# Altium footprint library Main.PcbLib: 56 footprints (part 2 of 4)
Each footprint in its own frame and in the unit in brackets; x right, y up, seen from the top. Pads: shape width x height; smd on the part's side, far side on the other; paste and mask are expansions set on the pad; w line width, h text height; cw(c..) or ccw(c..) is an arc to the next point about the centre after c.
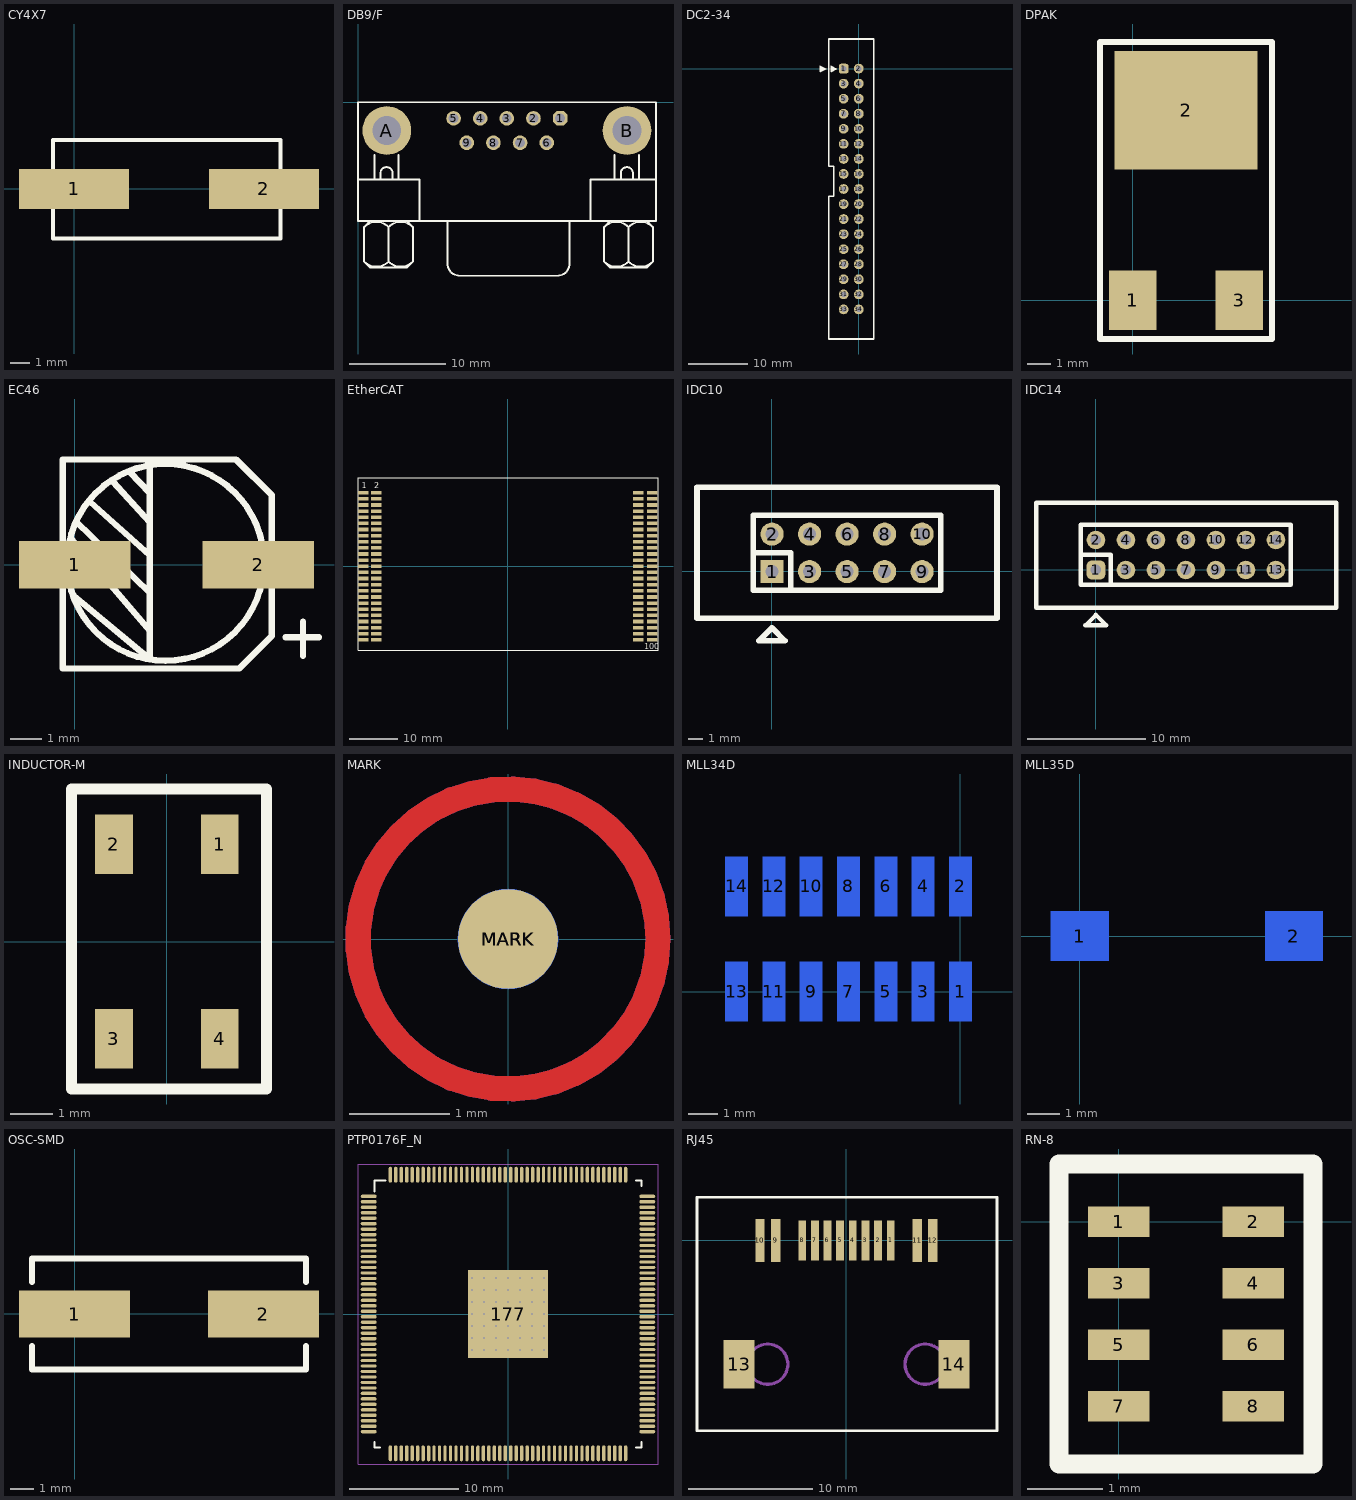
[diagram p1: the footprints below, top view; thin cyan lines are the x and y axes]

## CY4X7 [mil]
pads (2):
  rect 220x80 smd: 1(0,0) 2(379,0)
Top Overlay:
  lines w8: -42,-99 -42,98 412,98 412,-99 -42,-99

## DB9/F [mil]
pads (11):
  oct 60x60 hole 40: 1(827.92,-66)
  round 60 hole 40: 2(718.75,-66) 3(609.58,-66) 4(500.42,-66) 5(391.25,-66) 6(772.92,-166) 7(663.75,-166) 8(554.58,-166) 9(445.42,-166)
  round 200 hole 118: A(117.92,-116) B(1102.08,-116)
Top Overlay:
  lines w8: -0.24,-485.83 -0.24,-0.33 ; 0,-486 1220,-486 ; 0,-316 251.58,-316 251.92,-485 ; 0,0 1220,0 ; 24.75,-653.09 ccw(c74.83,-603) 124.92,-653.09 ; 24.75,-511.25 cw(c74.83,-561.33) 124.92,-511.25 ; 49.83,-486.33 24.83,-511.33 24.83,-653 49.83,-678 199.83,-678 224.83,-653 224.83,-511.33 199.83,-486.33 ; 66.58,-316 66.58,-216 ; 91.58,-316 91.58,-291 cw(c116.58,-291) 141.58,-291 141.58,-316 ; 124.75,-653.09 ccw(c174.83,-603) 224.92,-653.09 ; 124.75,-511.25 cw(c174.83,-561.33) 224.92,-511.25 ; 124.83,-653 124.83,-511.33 ; 166.58,-316 166.58,-216 ; 366.5,-486 366.5,-661 ccw(c416.5,-661) 416.5,-711 816.5,-711 ccw(c816.5,-661) 866.5,-661 866.5,-486 ; 951.92,-484 951.58,-316 1220,-316 ; 1008.08,-653.09 ccw(c1058.17,-603) 1108.25,-653.09 ; 1008.08,-511.25 cw(c1058.17,-561.33) 1108.25,-511.25 ; 1033.17,-486.33 1008.17,-511.33 1008.17,-653 1033.17,-678 1183.17,-678 1208.17,-653 1208.17,-511.33 1183.17,-486.33 ; 1051.58,-316 1051.58,-216 ; 1076.58,-316 1076.58,-291 cw(c1101.58,-291) 1126.58,-291 1126.58,-316 ; 1108.08,-653.09 ccw(c1158.17,-603) 1208.25,-653.09 ; 1108.08,-511.25 cw(c1158.17,-561.33) 1208.25,-511.25 ; 1108.17,-653 1108.17,-511.33 ; 1151.58,-316 1151.58,-216 ; 1220.24,-485.49 1220.24,0
Bottom Overlay:
  text "9" at 298.78,-184.45 h50
  text "5" at 294.78,-91.45 h50
  text "6" at 957.78,-193.45 h50
  text "1" at 953.78,-89.45 h50

## DC2-34 [mil]
height 43.31
pads (34):
  rrect50% 65x65 hole 35.43: 1(-100,0)
  round 65 hole 35.43: 2(0,0) 3(-100,-100) 4(0,-100) 5(-100,-200) 6(0,-200) 7(-100,-300) 8(0,-300) 9(-100,-400) 10(0,-400) 11(-100,-500) 12(0,-500) 13(-100,-600) 14(0,-600) 15(-100,-700) 16(0,-700) 17(-100,-800) 18(0,-800) 19(-100,-900) 20(0,-900) 21(-100,-1000) 22(0,-1000) 23(-100,-1100) 24(0,-1100) 25(-100,-1200) 26(0,-1200) 27(-100,-1300) 28(0,-1300) 29(-100,-1400) 30(0,-1400) 31(-100,-1500) 32(0,-1500) 33(-100,-1600) 34(0,-1600)
Top Overlay:
  lines w7.87: -247,-0.09 -238.14,-0.09 ; -175.35,-0.09 -166.49,-0.09 ; -255.86,-19.77 -255.86,19.6 -216.49,-0.09 -255.86,-19.77 ; -251.92,-13.87 -251.92,13.69 -225.35,-0.09 -251.92,-13.87 ; -247.98,-6.98 -247.98,6.8 -234.2,-0.09 -247.98,-6.98 ; -184.2,-19.77 -184.2,19.6 -144.83,-0.09 -184.2,-19.77 ; -180.27,-13.87 -180.27,13.69 -153.69,-0.09 -180.27,-13.87 ; -176.33,-6.98 -176.33,6.8 -162.55,-0.09 -176.33,-6.98
  lines w10: -200,-1796.85 100,-1796.85 100,196.85 -200,196.85 -200,-600 -200,-649.8 -164.37,-649.8 -164.37,-849.61 -200,-849.61 -200,-1796.85

## DPAK [mil]
height 43.31
pads (3):
  rect 80x100 smd: 1(0,0) 3(180,0)
  rect 240x200 smd: 2(90,320)
Top Overlay:
  lines w10: -55,-65 -55,435 235,435 235,-65 -55,-65

## EC46 [mil]
pads (2):
  rect 140x60 smd: 1(0,0) 2(230,0)
Top Overlay:
  circle w8: c113.68,3 r123.32
  lines w8: -4,32 94,-83 ; -1,-39 94,-118 94,123 ; 2,54 94,-35 ; 19,79 94,12 ; 48,104 94,53 ; 69,116 94,90 ; 264,-91 306,-91 ; 286,-114 286,-71 ; -15,-130 -15,132 202,132 247,87 247,-89 206,-130 -15,-130

## EtherCAT [mm]
pads (100):
  rect 2.2x0.75 smd: 1(-29.887,15.24) 2(-27.173,15.24) 3(-29.887,13.97) 4(-27.173,13.97) 5(-29.887,12.7) 6(-27.173,12.7) 7(-29.887,11.43) 8(-27.173,11.43) 9(-29.887,10.16) 10(-27.173,10.16) 11(-29.887,8.89) 12(-27.173,8.89) 13(-29.887,7.62) 14(-27.173,7.62) 15(-29.887,6.35) 16(-27.173,6.35) 17(-29.887,5.08) 18(-27.173,5.08) 19(-29.887,3.81) 20(-27.173,3.81) 21(-29.887,2.54) 22(-27.173,2.54) 23(-29.887,1.27) 24(-27.173,1.27) 25(-29.887,0) 26(-27.173,0) 27(-29.887,-1.27) 28(-27.173,-1.27) 29(-29.887,-2.54) 30(-27.173,-2.54) 31(-29.887,-3.81) 32(-27.173,-3.81) 33(-29.887,-5.08) 34(-27.173,-5.08) 35(-29.887,-6.35) 36(-27.173,-6.35) 37(-29.887,-7.62) 38(-27.173,-7.62) 39(-29.887,-8.89) 40(-27.173,-8.89) 41(-29.887,-10.16) 42(-27.173,-10.16) 43(-29.887,-11.43) 44(-27.173,-11.43) 45(-29.887,-12.7) 46(-27.173,-12.7) 47(-29.887,-13.97) 48(-27.173,-13.97) 49(-29.887,-15.24) 50(-27.173,-15.24) 51(27.06,15.24) 52(29.944,15.24) 53(27.06,13.97) 54(29.944,13.97) 55(27.06,12.7) 56(29.944,12.7) 57(27.06,11.43) 58(29.944,11.43) 59(27.06,10.16) 60(29.944,10.16) 61(27.06,8.89) 62(29.944,8.89) 63(27.06,7.62) 64(29.944,7.62) 65(27.06,6.35) 66(29.944,6.35) 67(27.06,5.08) 68(29.944,5.08) 69(27.06,3.81) 70(29.944,3.81) 71(27.06,2.54) 72(29.944,2.54) 73(27.06,1.27) 74(29.944,1.27) 75(27.06,0) 76(29.944,0) 77(27.06,-1.27) 78(29.944,-1.27) 79(27.06,-2.54) 80(29.944,-2.54) 81(27.06,-3.81) 82(29.944,-3.81) 83(27.06,-5.08) 84(29.944,-5.08) 85(27.06,-6.35) 86(29.944,-6.35) 87(27.06,-7.62) 88(29.944,-7.62) 89(27.06,-8.89) 90(29.944,-8.89) 91(27.06,-10.16) 92(29.944,-10.16) 93(27.06,-11.43) 94(29.944,-11.43) 95(27.06,-12.7) 96(29.944,-12.7) 97(27.06,-13.97) 98(29.944,-13.97) 99(27.06,-15.24) 100(29.944,-15.24)
Top Overlay:
  lines w0.203: -30.944,-17.381 -30.944,18.328 31.134,18.328 31.134,-17.381 -30.944,-17.381
  text "1" at -30.169,16.113 h1.2
  text "2" at -27.583,16.182 h1.2
  text "100" at 28.279,-17.191 h1.2

## IDC10 [mil]
pads (10):
  rect 62x62 hole 35: 1(0.49,-0.29)
  round 62 hole 35: 2(0.49,99.71) 3(100.49,-0.29) 4(100.49,99.71) 5(200.49,-0.29) 6(200.49,99.71) 7(300.49,-0.29) 8(300.49,99.71) 9(400.49,-0.29) 10(400.49,99.71)
Top Overlay:
  lines w15: -49.51,49.71 50.49,49.71 50.49,-50.29 ; -199.51,-125.2 600.35,-125.2 600.35,224.8 -199.51,224.8 -199.51,-125.2 ; -49.51,-50.29 450.35,-50.29 450.35,149.71 -49.51,149.71 -49.51,-50.29 ; -35,-185 35,-185 0,-150 -35,-185

## IDC14 [mil]
pads (14):
  rrect50% 62x62 hole 35: 1(0,0)
  round 62 hole 35: 2(0,100) 3(100,0) 4(100,100) 5(200,0) 6(200,100) 7(300,0) 8(300,100) 9(400,0) 10(400,100) 11(500,0) 12(500,100) 13(600,0) 14(600,100)
Top Overlay:
  lines w15: -50,50 50,50 50,-50 ; -199.86,-125.03 -199.86,224.97 800.14,224.97 800.14,-125.03 -199.86,-125.03 ; -50,-50 -50,150 650,150 650,-50 -50,-50 ; -35,-185 35,-185 0,-150 -35,-185

## INDUCTOR-M [mil]
pads (4):
  rect 35x55 smd: 1(49,90) 2(-49,90) 3(-49,-90) 4(49,-90)
Top Overlay:
  lines w10: -88.28,-136.54 92.26,-136.54 92.26,141.21 -88.28,141.21 -88.28,-136.54

## MARK [mm]
height 1.1
pads (6):
  round 1 smd: MARK(0,0)
  round 1 smd far side: MARK(0,0)
  round 2 on Top Paste: MARK(0,0)
  round 2 on Bottom Paste: MARK(0,0)
  round 2 on Top Solder: MARK(0,0)
  round 2 on Bottom Solder: MARK(0,0)
Top Layer:
  circle w0.254: c0,0 r1.5
Bottom Layer:
  circle w0.254: c0,0 r1.5

## MLL34D [mil]
pads (14):
  rect 30x80 smd far side: 1(0,0) 2(0,141) 3(-50,0) 4(-50,141) 5(-100,0) 6(-100,141) 7(-150,0) 8(-150,141) 9(-200,0) 10(-200,141) 11(-250,0) 12(-250,141) 13(-300,0) 14(-300,141)
Bottom Overlay:
  lines w6: -329,8 -353,8 -353,128 -329,128 ; 26,8 49,8 49,128 26,128

## MLL35D [mil]
pads (2):
  rect 70x60 smd far side: 1(0,0) 2(260,0)
Bottom Overlay:
  lines w6: -53,-81 -53,74 311,74 311,-81 -53,-81

## OSC-SMD [mm]
height 1.1
pads (2):
  rect 4.7x2 smd: 1(0,0) 2(8,0)
Top Overlay:
  lines w0.25: -1.8,-1.35 -1.8,-2.35 9.8,-2.35 9.8,-1.35 ; -1.8,1.35 -1.8,2.35 9.8,2.35 9.8,1.35

## PTP0176F_N [mm]
pads (226):
  oval 1.45x0.3 smd paste+0 mask+0.051: 1(-12.725,10.75) 2(-12.725,10.25) 3(-12.725,9.75) 4(-12.725,9.25) 5(-12.725,8.75) 6(-12.725,8.25) 7(-12.725,7.75) 8(-12.725,7.25) 9(-12.725,6.75) 10(-12.725,6.25) 11(-12.725,5.75) 12(-12.725,5.25) 13(-12.725,4.75) 14(-12.725,4.25) 15(-12.725,3.75) 16(-12.725,3.25) 17(-12.725,2.75) 18(-12.725,2.25) 19(-12.725,1.75) 20(-12.725,1.25) 21(-12.725,0.75) 22(-12.725,0.25) 23(-12.725,-0.25) 24(-12.725,-0.75) 25(-12.725,-1.25) 26(-12.725,-1.75) 27(-12.725,-2.25) 28(-12.725,-2.75) 29(-12.725,-3.25) 30(-12.725,-3.75) 31(-12.725,-4.25) 32(-12.725,-4.75) 33(-12.725,-5.25) 34(-12.725,-5.75) 35(-12.725,-6.25) 36(-12.725,-6.75) 37(-12.725,-7.25) 38(-12.725,-7.75) 39(-12.725,-8.25) 40(-12.725,-8.75) 41(-12.725,-9.25) 42(-12.725,-9.75) 43(-12.725,-10.25) 44(-12.725,-10.75) 89(12.725,-10.75) 90(12.725,-10.25) 91(12.725,-9.75) 92(12.725,-9.25) 93(12.725,-8.75) 94(12.725,-8.25) 95(12.725,-7.75) 96(12.725,-7.25) 97(12.725,-6.75) 98(12.725,-6.25) 99(12.725,-5.75) 100(12.725,-5.25) 101(12.725,-4.75) 102(12.725,-4.25) 103(12.725,-3.75) 104(12.725,-3.25) 105(12.725,-2.75) 106(12.725,-2.25) 107(12.725,-1.75) 108(12.725,-1.25) 109(12.725,-0.75) 110(12.725,-0.25) 111(12.725,0.25) 112(12.725,0.75) 113(12.725,1.25) 114(12.725,1.75) 115(12.725,2.25) 116(12.725,2.75) 117(12.725,3.25) 118(12.725,3.75) 119(12.725,4.25) 120(12.725,4.75) 121(12.725,5.25) 122(12.725,5.75) 123(12.725,6.25) 124(12.725,6.75) 125(12.725,7.25) 126(12.725,7.75) 127(12.725,8.25) 128(12.725,8.75) 129(12.725,9.25) 130(12.725,9.75) 131(12.725,10.25) 132(12.725,10.75)
  oval 0.3x1.45 smd paste+0 mask+0.051: 45(-10.75,-12.725) 46(-10.25,-12.725) 47(-9.75,-12.725) 48(-9.25,-12.725) 49(-8.75,-12.725) 50(-8.25,-12.725) 51(-7.75,-12.725) 52(-7.25,-12.725) 53(-6.75,-12.725) 54(-6.25,-12.725) 55(-5.75,-12.725) 56(-5.25,-12.725) 57(-4.75,-12.725) 58(-4.25,-12.725) 59(-3.75,-12.725) 60(-3.25,-12.725) 61(-2.75,-12.725) 62(-2.25,-12.725) 63(-1.75,-12.725) 64(-1.25,-12.725) 65(-0.75,-12.725) 66(-0.25,-12.725) 67(0.25,-12.725) 68(0.75,-12.725) 69(1.25,-12.725) 70(1.75,-12.725) 71(2.25,-12.725) 72(2.75,-12.725) 73(3.25,-12.725) 74(3.75,-12.725) 75(4.25,-12.725) 76(4.75,-12.725) 77(5.25,-12.725) 78(5.75,-12.725) 79(6.25,-12.725) 80(6.75,-12.725) 81(7.25,-12.725) 82(7.75,-12.725) 83(8.25,-12.725) 84(8.75,-12.725) 85(9.25,-12.725) 86(9.75,-12.725) 87(10.25,-12.725) 88(10.75,-12.725) 133(10.75,12.725) 134(10.25,12.725) 135(9.75,12.725) 136(9.25,12.725) 137(8.75,12.725) 138(8.25,12.725) 139(7.75,12.725) 140(7.25,12.725) 141(6.75,12.725) 142(6.25,12.725) 143(5.75,12.725) 144(5.25,12.725) 145(4.75,12.725) 146(4.25,12.725) 147(3.75,12.725) 148(3.25,12.725) 149(2.75,12.725) 150(2.25,12.725) 151(1.75,12.725) 152(1.25,12.725) 153(0.75,12.725) 154(0.25,12.725) 155(-0.25,12.725) 156(-0.75,12.725) 157(-1.25,12.725) 158(-1.75,12.725) 159(-2.25,12.725) 160(-2.75,12.725) 161(-3.25,12.725) 162(-3.75,12.725) 163(-4.25,12.725) 164(-4.75,12.725) 165(-5.25,12.725) 166(-5.75,12.725) 167(-6.25,12.725) 168(-6.75,12.725) 169(-7.25,12.725) 170(-7.75,12.725) 171(-8.25,12.725) 172(-8.75,12.725) 173(-9.25,12.725) 174(-9.75,12.725) 175(-10.25,12.725) 176(-10.75,12.725)
  rect 7.33x8.07 smd paste+0 mask+0.051: 177(0,0)
  round 0.5 hole 0.203 mask+0.051: V(-3.3,-3.3) V(-3.3,-2.2) V(-3.3,-1.1) V(-3.3,0) V(-3.3,1.1) V(-3.3,2.2) V(-3.3,3.3) V(-2.2,-3.3) V(-2.2,-2.2) V(-2.2,-1.1) V(-2.2,0) V(-2.2,1.1) V(-2.2,2.2) V(-2.2,3.3) V(-1.1,-3.3) V(-1.1,-2.2) V(-1.1,-1.1) V(-1.1,0) V(-1.1,1.1) V(-1.1,2.2) V(-1.1,3.3) V(0,-3.3) V(0,-2.2) V(0,-1.1) V(0,0) V(0,1.1) V(0,2.2) V(0,3.3) V(1.1,-3.3) V(1.1,-2.2) V(1.1,-1.1) V(1.1,0) V(1.1,1.1) V(1.1,2.2) V(1.1,3.3) V(2.2,-3.3) V(2.2,-2.2) V(2.2,-1.1) V(2.2,0) V(2.2,1.1) V(2.2,2.2) V(2.2,3.3) V(3.3,-3.3) V(3.3,-2.2) V(3.3,-1.1) V(3.3,0) V(3.3,1.1) V(3.3,2.2) V(3.3,3.3)
Top Overlay:
  lines w0.2: -12.2,-11.7 -12.2,-12.2 -11.7,-12.2 ; -12.2,11.2 -12.2,12.2 -11.2,12.2 ; 11.7,-12.2 12.2,-12.2 12.2,-11.7 ; 11.7,12.2 12.2,12.2 12.2,11.7
Mechanical 13:
  text ".Designator" at -1.524,-1.143 h1.27
Mechanical 15:
  lines w0.05: -13.7,-13.7 -13.7,13.7 13.7,13.7 13.7,-13.7 -13.7,-13.7
  lines w0.1: -0.5,0 0.5,0 ; 0,-0.5 0,0.5
3D body: height 0.25, standoff 0, extent 0,0 0.254,0.254

## RJ45 [mm]
pads (14):
  rect 0.635x3.2 smd: 1(3.57,0) 2(2.55,0) 3(1.53,0) 4(0.51,0) 5(-0.51,0) 6(-1.53,0) 7(-2.55,0) 8(-3.57,0)
  rect 0.762x3.5 smd: 9(-5.705,0) 10(-6.975,0) 11(5.705,0) 12(6.975,0)
  rect 2.5x3.89 smd: 13(-8.66,-9.98) 14(8.66,-9.98)
Top Overlay:
  lines w0.203: -12.055,-15.355 12.142,-15.355 12.142,3.495 -12.055,3.495 -12.055,-15.355
Mechanical 1:
  circle w0.254: c6.35,-9.98 r1.625
  circle w0.254: c-6.35,-9.98 r1.625

## RN-8 [mil]
height 43.31
pads (8):
  rect 32x16 smd: 1(0,0) 2(70,0) 3(0,-32) 4(70,-32) 5(0,-64) 6(70,-64) 7(0,-96) 8(70,-96)
Top Overlay:
  lines w10: -31,-126 -31,30 101,30 101,-126 -31,-126